# Altium integrated library TI Power Management Battery Management.IntLib: 949 symbols (part 39 of 62)
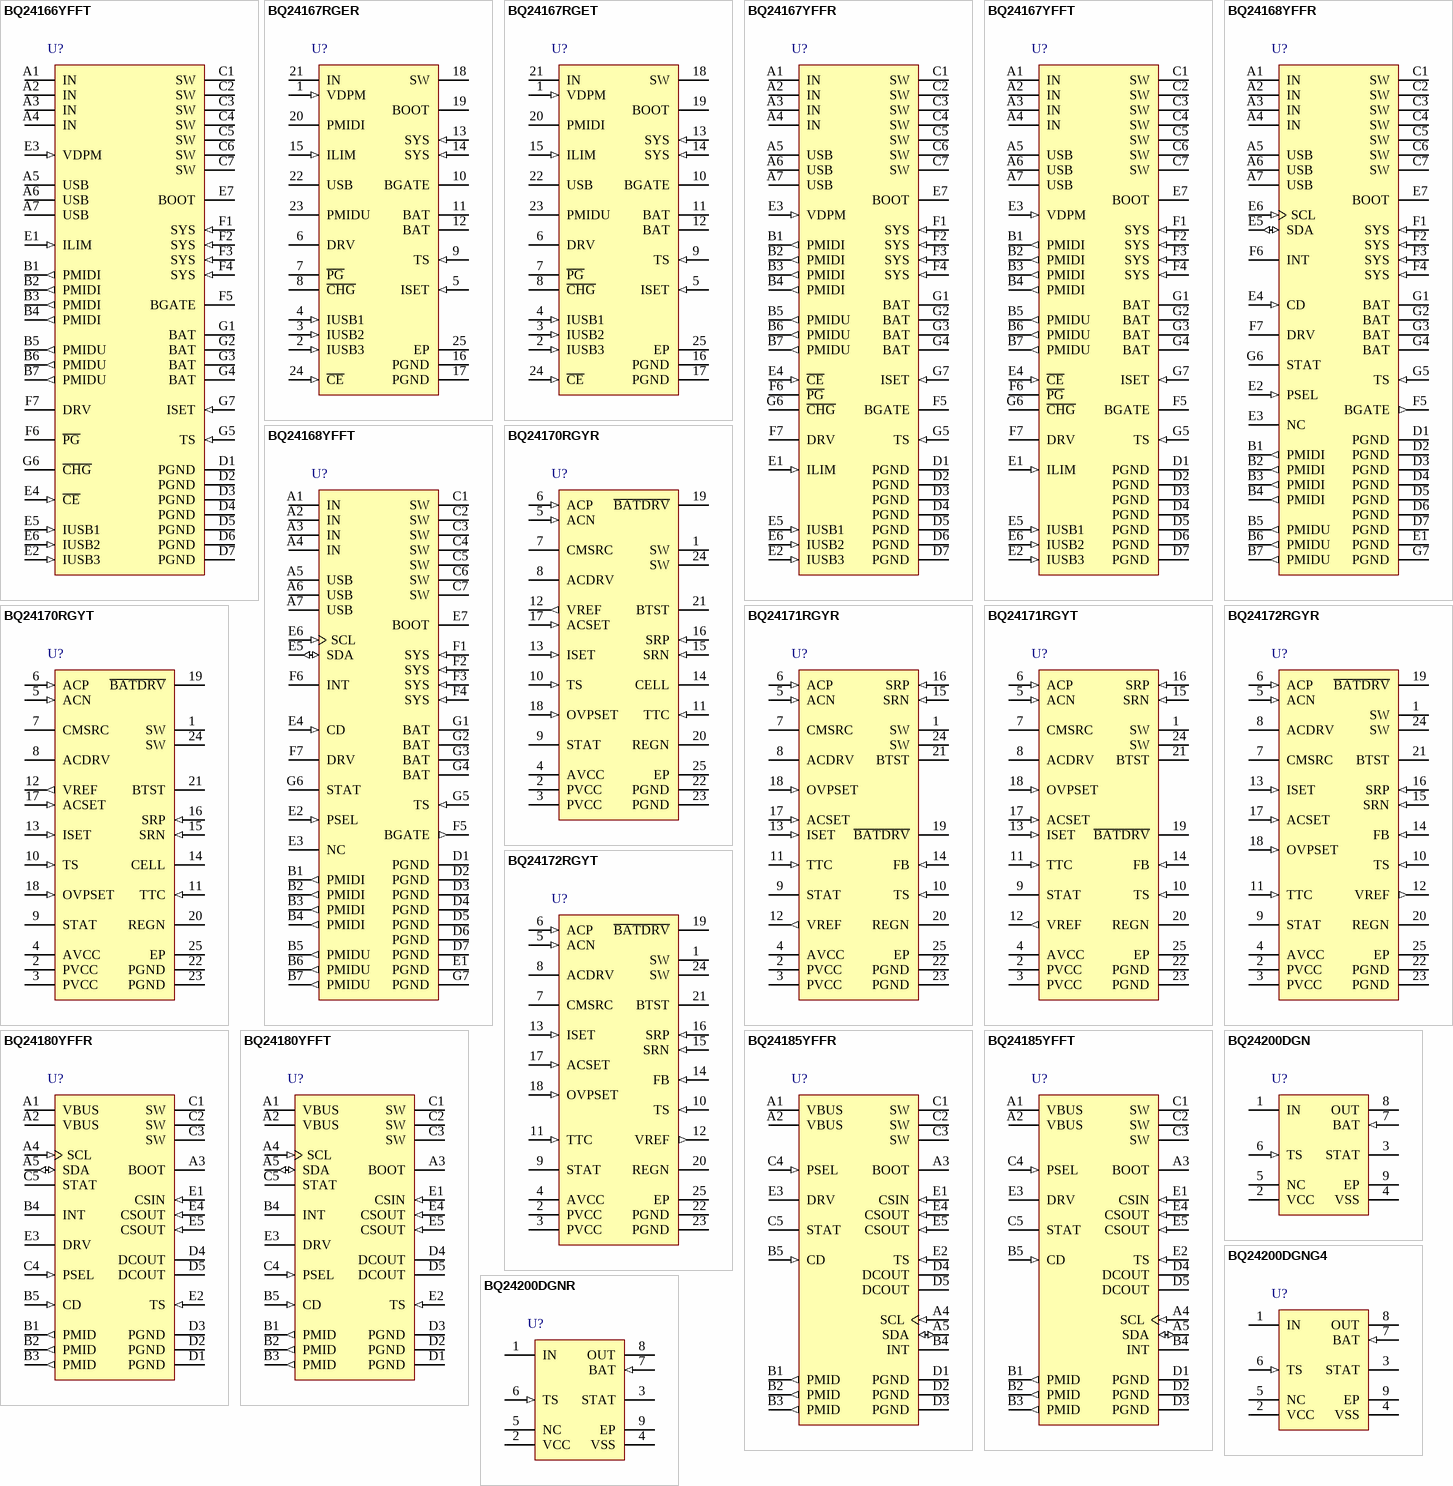
[diagram p72: symbols BQ24166YFFT to BQ24200DGNR]

## BQ24167YFFR
designator U?
2.5 A, Dual-Input, Single Cell Switchmode Li-Ion Battery Charger with Power Path Management, 4 V, -40 to 85 degC, 49-pin DSBGA (YFF), Green (RoHS & no Sb/Br); PartNumber: BQ24167YFFR; Manufacturer: Texas Instruments; Lead Acid: N; Li-Ion: Y; SubFamily: Battery Charge Management; Vin(Min)(V): 4; DatasheetVersion: SLUSAP4A; PackageVersion: revAH, Jul-2012; PackageReference: YFF49-2780X2780DE; PackageDescription: 49-Ball Die-Size Ball Grid Array 0.4 mm Pitch, Pb-Free; Supplier 1: Digi-Key; Supplier Part Number 1: BQ24167YFFR-ND; Supplier 2: Newark; Supplier Part Number 2: 92T2004; Supplier 3: Mouser; Supplier Part Number 3: 595-BQ24167YFFR; Eco-Plan: Green (RoHS & no Sb/Br); Li-Polymer: Y; NiCd: N; NiMH: N; Over Voltage Protection: N; Mounting Technology: Surface Mount; ComponentLink1Description: Datasheet; ComponentLink1URL: http://www.ti.com/general/docs/lit/getliterature.tsp?genericPartNumber=BQ24167&fileType=pdf
footprint YFF49-2780X2780DE (BGA, 49-Leads, Body 2.78x2.78mm, Pitch 0.4mm, Solder Mask Defined Pads)
pins: A1 IN (power) "Input power supply. IN is connected to the external DC supply (AC adapter or alternate power source). Bypass IN to PGND with at least a 1uF ceramic capacitor.", A2 IN (power) "Input power supply. IN is connected to the external DC supply (AC adapter or alternate power source). Bypass IN to PGND with at least a 1uF ceramic capacitor.", A3 IN (power) "Input power supply. IN is connected to the external DC supply (AC adapter or alternate power source). Bypass IN to PGND with at least a 1uF ceramic capacitor.", A4 IN (power) "Input power supply. IN is connected to the external DC supply (AC adapter or alternate power source). Bypass IN to PGND with at least a 1uF ceramic capacitor.", A5 USB (power) "USB Input Power Supply. USB is connected to the external DC supply (AC adapter or USB port). Bypass USB to PGND with at least a 1uF ceramic capacitor.", A6 USB (power) "USB Input Power Supply. USB is connected to the external DC supply (AC adapter or USB port). Bypass USB to PGND with at least a 1uF ceramic capacitor.", A7 USB (power) "USB Input Power Supply. USB is connected to the external DC supply (AC adapter or USB port). Bypass USB to PGND with at least a 1uF ceramic capacitor.", B1 PMIDI (out) "Reverse Blocking MOSFET and High Side MOSFET Connection Point for High Power Input. Bypass PMIDI to GND with at least a 4.7uF ceramic capacitor. Use caution when connecting an external load to PMIDI. The PMIDI output is not (See Datasheet)", B2 PMIDI (out) "Reverse Blocking MOSFET and High Side MOSFET Connection Point for High Power Input. Bypass PMIDI to GND with at least a 4.7uF ceramic capacitor. Use caution when connecting an external load to PMIDI. The PMIDI output is not (See Datasheet)", B3 PMIDI (out) "Reverse Blocking MOSFET and High Side MOSFET Connection Point for High Power Input. Bypass PMIDI to GND with at least a 4.7uF ceramic capacitor. Use caution when connecting an external load to PMIDI. The PMIDI output is not (See Datasheet)", B4 PMIDI (out) "Reverse Blocking MOSFET and High Side MOSFET Connection Point for High Power Input. Bypass PMIDI to GND with at least a 4.7uF ceramic capacitor. Use caution when connecting an external load to PMIDI. The PMIDI output is not (See Datasheet)", B5 PMIDU (out) "Reverse Blocking MOSFET and High Side MOSFET Connection Point for USB Input. Bypass PMIDU to GND with at least a 4.7uF ceramic capacitor. Use caution when connecting an external load to PMIDU. The PMIDU output is not current (See Datasheet)", B6 PMIDU (out) "Reverse Blocking MOSFET and High Side MOSFET Connection Point for USB Input. Bypass PMIDU to GND with at least a 4.7uF ceramic capacitor. Use caution when connecting an external load to PMIDU. The PMIDU output is not current (See Datasheet)", B7 PMIDU (out) "Reverse Blocking MOSFET and High Side MOSFET Connection Point for USB Input. Bypass PMIDU to GND with at least a 4.7uF ceramic capacitor. Use caution when connecting an external load to PMIDU. The PMIDU output is not current (See Datasheet)", C1 SW (power) "Inductor Connection. Connect to the switched side of the external inductor.", C2 SW (power) "Inductor Connection. Connect to the switched side of the external inductor.", C3 SW (power) "Inductor Connection. Connect to the switched side of the external inductor.", C4 SW (power) "Inductor Connection. Connect to the switched side of the external inductor.", C5 SW (power) "Inductor Connection. Connect to the switched side of the external inductor.", C6 SW (power) "Inductor Connection. Connect to the switched side of the external inductor.", C7 SW (power) "Inductor Connection. Connect to the switched side of the external inductor.", D1 PGND (power) "Ground terminal. Connect to the thermal pad (for QFN only) and the ground plane of the circuit.", D2 PGND (power) "Ground terminal. Connect to the thermal pad (for QFN only) and the ground plane of the circuit.", D3 PGND (power) "Ground terminal. Connect to the thermal pad (for QFN only) and the ground plane of the circuit.", D4 PGND (power) "Ground terminal. Connect to the thermal pad (for QFN only) and the ground plane of the circuit.", D5 PGND (power) "Ground terminal. Connect to the thermal pad (for QFN only) and the ground plane of the circuit.", D6 PGND (power) "Ground terminal. Connect to the thermal pad (for QFN only) and the ground plane of the circuit.", D7 PGND (power) "Ground terminal. Connect to the thermal pad (for QFN only) and the ground plane of the circuit.", E1 ILIM (in) "IN Input Current Limit Programming Input. Connect a resistor from ILIM to GND to program the input current limit for IN. The current limit is programmable from 1A to 2.5A. ILIM has no effect on the USB input.", E2 IUSB3 (in) "USB Input Current Limit Programming Inputs. USB3 program the input current limit for the USB input.USB2.0 and USB3.0 current limits are available for easy implementation of these standards. Table 1 shows the settings for (See Datasheet)", E3 VDPM (in) "Input DPM Programming Input. Connect a resistor divider from IN to GND with VDPM connected to the center tap to program the Input Voltage based Dynamic Power Management (VIN-DPM) threshold. The input current is reduced to (See Datasheet)", E4 ~{CE} (in) "Charge Enable Input. C\E\ is used to disable or enable the charge process. A low logic level (0) enables charging and a high logic level (1) disables charging. When charging is disabled, the SYS output remains in regulation, (See Datasheet)", E5 IUSB1 (in) "USB Input Current Limit Programming Inputs. USB1 program the input current limit for the USB input. USB2.0 and USB3.0 current limits are available for easy implementation of these standards. Table 1 shows the settings for (See Datasheet)", E6 IUSB2 (in) "USB Input Current Limit Programming Inputs. USB2 program the input current limit for the USB input. USB2.0 and USB3.0 current limits are available for easy implementation of these standards. Table 1 shows the settings for (See Datasheet)", E7 BOOT (power) "High Side MOSFET Gate Driver Supply. Connect a 0.01uF ceramic capacitor (voltage rating > 10V) from BOOT to SW to supply the gate drive for the high side MOSFETs.", F1 SYS (in) "System Voltage Sense and Charger FET Connection. Connect SYS to the system output at the output bulk capacitors. Bypass SYS locally with at least 10uF. 47uF bypass capacitance is recommended for best transient response.", F2 SYS (in) "System Voltage Sense and Charger FET Connection. Connect SYS to the system output at the output bulk capacitors. Bypass SYS locally with at least 10uF. 47uF bypass capacitance is recommended for best transient response.", F3 SYS (in) "System Voltage Sense and Charger FET Connection. Connect SYS to the system output at the output bulk capacitors. Bypass SYS locally with at least 10uF. 47uF bypass capacitance is recommended for best transient response.", F4 SYS (in) "System Voltage Sense and Charger FET Connection. Connect SYS to the system output at the output bulk capacitors. Bypass SYS locally with at least 10uF. 47uF bypass capacitance is recommended for best transient response.", F5 BGATE "External Discharge MOSFET Gate Connection. BGATE drives an external PChannel MOSFET to provide a very low resistance discharge path. Connect BGATE to the gate of the external MOSFET. BGATE is low during high impedance mode (See Datasheet)", F6 ~{PG} (hiz) "Power Good Open Drain Output. P\G\ is pulled low when a valid supply is connected to either USB or IN. A valid supply is between VBAT+VSLP and VOVP. If not supply is connected or the supply is out of this range, P\G\ is high (See Datasheet)", F7 DRV (power) "Gate Drive Supply. DRV is the bias supply for the gate drive of the internal MOSFETs. bypass DRV to PGND with a 1uF ceramic capacitor. DRV may be used to drive external loads up to 10mA. DRV is active whenever the input is (See Datasheet)", G1 BAT (power) "Battery Connection. Connect to the positive terminal of the battery. Additionally, bypass BAT to GND with at least a 1uF capacitor.", G2 BAT (power) "Battery Connection. Connect to the positive terminal of the battery. Additionally, bypass BAT to GND with at least a 1uF capacitor.", G3 BAT (power) "Battery Connection. Connect to the positive terminal of the battery. Additionally, bypass BAT to GND with at least a 1uF capacitor.", G4 BAT (power) "Battery Connection. Connect to the positive terminal of the battery. Additionally, bypass BAT to GND with at least a 1uF capacitor.", G5 TS (in) "Battery Pack NTC Monitor. Connect TS to the center tap of a resistor divider from DRV to GND. The NTC is connected from TS to GND. The TS function in the bq24166 provides 2 thresholds for Hot/ Cold shutoff, while the bq24167 (See Datasheet)", G6 ~{CHG} (hiz) "Charge Status Open Drain Output. C\H\G\ is pulled low when a charge cycle starts and remains low while charging. C\H\G\ is high impedance when the charging terminates and when no supply exists. C\H\G\ does not indicate (See Datasheet)", G7 ISET (in) "Charge Current Programming Input. Connect a resistor from ISET to GND to program the fast charge current. The charge current is programmable from 550mA to 2.5A."

## BQ24167YFFT
designator U?
2.5 A, Dual-Input, Single Cell Switchmode Li-Ion Battery Charger with Power Path Management, 4 V, -40 to 85 degC, 49-pin DSBGA (YFF), Green (RoHS & no Sb/Br); PartNumber: BQ24167YFFT; Manufacturer: Texas Instruments; Lead Acid: N; Li-Ion: Y; SubFamily: Battery Charge Management; Vin(Min)(V): 4; DatasheetVersion: SLUSAP4A; PackageVersion: revAH, Jul-2012; PackageReference: YFF49-2780X2780DE; PackageDescription: 49-Ball Die-Size Ball Grid Array 0.4 mm Pitch, Pb-Free; Supplier 1: Digi-Key; Supplier Part Number 1: 296-30345-2-ND; Supplier 2: Digi-Key; Supplier Part Number 2: 296-30345-1-ND; Supplier 3: Digi-Key; Supplier Part Number 3: 296-30345-6-ND; Supplier 4: Farnell; Supplier Part Number 4: 2099910; Supplier 5: Newark; Supplier Part Number 5: 05W5380; Supplier 6: Newark; Supplier Part Number 6: 92T2005; Supplier 7: Mouser; Supplier Part Number 7: 595-BQ24167YFFT; Eco-Plan: Green (RoHS & no Sb/Br); Li-Polymer: Y; NiCd: N; NiMH: N; Over Voltage Protection: N; Mounting Technology: Surface Mount; ComponentLink1Description: Datasheet; ComponentLink1URL: http://www.ti.com/general/docs/lit/getliterature.tsp?genericPartNumber=BQ24167&fileType=pdf
footprint YFF49-2780X2780DE (BGA, 49-Leads, Body 2.78x2.78mm, Pitch 0.4mm, Solder Mask Defined Pads)
pins: A1 IN (power) "Input power supply. IN is connected to the external DC supply (AC adapter or alternate power source). Bypass IN to PGND with at least a 1uF ceramic capacitor.", A2 IN (power) "Input power supply. IN is connected to the external DC supply (AC adapter or alternate power source). Bypass IN to PGND with at least a 1uF ceramic capacitor.", A3 IN (power) "Input power supply. IN is connected to the external DC supply (AC adapter or alternate power source). Bypass IN to PGND with at least a 1uF ceramic capacitor.", A4 IN (power) "Input power supply. IN is connected to the external DC supply (AC adapter or alternate power source). Bypass IN to PGND with at least a 1uF ceramic capacitor.", A5 USB (power) "USB Input Power Supply. USB is connected to the external DC supply (AC adapter or USB port). Bypass USB to PGND with at least a 1uF ceramic capacitor.", A6 USB (power) "USB Input Power Supply. USB is connected to the external DC supply (AC adapter or USB port). Bypass USB to PGND with at least a 1uF ceramic capacitor.", A7 USB (power) "USB Input Power Supply. USB is connected to the external DC supply (AC adapter or USB port). Bypass USB to PGND with at least a 1uF ceramic capacitor.", B1 PMIDI (out) "Reverse Blocking MOSFET and High Side MOSFET Connection Point for High Power Input. Bypass PMIDI to GND with at least a 4.7uF ceramic capacitor. Use caution when connecting an external load to PMIDI. The PMIDI output is not (See Datasheet)", B2 PMIDI (out) "Reverse Blocking MOSFET and High Side MOSFET Connection Point for High Power Input. Bypass PMIDI to GND with at least a 4.7uF ceramic capacitor. Use caution when connecting an external load to PMIDI. The PMIDI output is not (See Datasheet)", B3 PMIDI (out) "Reverse Blocking MOSFET and High Side MOSFET Connection Point for High Power Input. Bypass PMIDI to GND with at least a 4.7uF ceramic capacitor. Use caution when connecting an external load to PMIDI. The PMIDI output is not (See Datasheet)", B4 PMIDI (out) "Reverse Blocking MOSFET and High Side MOSFET Connection Point for High Power Input. Bypass PMIDI to GND with at least a 4.7uF ceramic capacitor. Use caution when connecting an external load to PMIDI. The PMIDI output is not (See Datasheet)", B5 PMIDU (out) "Reverse Blocking MOSFET and High Side MOSFET Connection Point for USB Input. Bypass PMIDU to GND with at least a 4.7uF ceramic capacitor. Use caution when connecting an external load to PMIDU. The PMIDU output is not current (See Datasheet)", B6 PMIDU (out) "Reverse Blocking MOSFET and High Side MOSFET Connection Point for USB Input. Bypass PMIDU to GND with at least a 4.7uF ceramic capacitor. Use caution when connecting an external load to PMIDU. The PMIDU output is not current (See Datasheet)", B7 PMIDU (out) "Reverse Blocking MOSFET and High Side MOSFET Connection Point for USB Input. Bypass PMIDU to GND with at least a 4.7uF ceramic capacitor. Use caution when connecting an external load to PMIDU. The PMIDU output is not current (See Datasheet)", C1 SW (power) "Inductor Connection. Connect to the switched side of the external inductor.", C2 SW (power) "Inductor Connection. Connect to the switched side of the external inductor.", C3 SW (power) "Inductor Connection. Connect to the switched side of the external inductor.", C4 SW (power) "Inductor Connection. Connect to the switched side of the external inductor.", C5 SW (power) "Inductor Connection. Connect to the switched side of the external inductor.", C6 SW (power) "Inductor Connection. Connect to the switched side of the external inductor.", C7 SW (power) "Inductor Connection. Connect to the switched side of the external inductor.", D1 PGND (power) "Ground terminal. Connect to the thermal pad (for QFN only) and the ground plane of the circuit.", D2 PGND (power) "Ground terminal. Connect to the thermal pad (for QFN only) and the ground plane of the circuit.", D3 PGND (power) "Ground terminal. Connect to the thermal pad (for QFN only) and the ground plane of the circuit.", D4 PGND (power) "Ground terminal. Connect to the thermal pad (for QFN only) and the ground plane of the circuit.", D5 PGND (power) "Ground terminal. Connect to the thermal pad (for QFN only) and the ground plane of the circuit.", D6 PGND (power) "Ground terminal. Connect to the thermal pad (for QFN only) and the ground plane of the circuit.", D7 PGND (power) "Ground terminal. Connect to the thermal pad (for QFN only) and the ground plane of the circuit.", E1 ILIM (in) "IN Input Current Limit Programming Input. Connect a resistor from ILIM to GND to program the input current limit for IN. The current limit is programmable from 1A to 2.5A. ILIM has no effect on the USB input.", E2 IUSB3 (in) "USB Input Current Limit Programming Inputs. USB3 program the input current limit for the USB input.USB2.0 and USB3.0 current limits are available for easy implementation of these standards. Table 1 shows the settings for (See Datasheet)", E3 VDPM (in) "Input DPM Programming Input. Connect a resistor divider from IN to GND with VDPM connected to the center tap to program the Input Voltage based Dynamic Power Management (VIN-DPM) threshold. The input current is reduced to (See Datasheet)", E4 ~{CE} (in) "Charge Enable Input. C\E\ is used to disable or enable the charge process. A low logic level (0) enables charging and a high logic level (1) disables charging. When charging is disabled, the SYS output remains in regulation, (See Datasheet)", E5 IUSB1 (in) "USB Input Current Limit Programming Inputs. USB1 program the input current limit for the USB input. USB2.0 and USB3.0 current limits are available for easy implementation of these standards. Table 1 shows the settings for (See Datasheet)", E6 IUSB2 (in) "USB Input Current Limit Programming Inputs. USB2 program the input current limit for the USB input. USB2.0 and USB3.0 current limits are available for easy implementation of these standards. Table 1 shows the settings for (See Datasheet)", E7 BOOT (power) "High Side MOSFET Gate Driver Supply. Connect a 0.01uF ceramic capacitor (voltage rating > 10V) from BOOT to SW to supply the gate drive for the high side MOSFETs.", F1 SYS (in) "System Voltage Sense and Charger FET Connection. Connect SYS to the system output at the output bulk capacitors. Bypass SYS locally with at least 10uF. 47uF bypass capacitance is recommended for best transient response.", F2 SYS (in) "System Voltage Sense and Charger FET Connection. Connect SYS to the system output at the output bulk capacitors. Bypass SYS locally with at least 10uF. 47uF bypass capacitance is recommended for best transient response.", F3 SYS (in) "System Voltage Sense and Charger FET Connection. Connect SYS to the system output at the output bulk capacitors. Bypass SYS locally with at least 10uF. 47uF bypass capacitance is recommended for best transient response.", F4 SYS (in) "System Voltage Sense and Charger FET Connection. Connect SYS to the system output at the output bulk capacitors. Bypass SYS locally with at least 10uF. 47uF bypass capacitance is recommended for best transient response.", F5 BGATE "External Discharge MOSFET Gate Connection. BGATE drives an external PChannel MOSFET to provide a very low resistance discharge path. Connect BGATE to the gate of the external MOSFET. BGATE is low during high impedance mode (See Datasheet)", F6 ~{PG} (hiz) "Power Good Open Drain Output. P\G\ is pulled low when a valid supply is connected to either USB or IN. A valid supply is between VBAT+VSLP and VOVP. If not supply is connected or the supply is out of this range, P\G\ is high (See Datasheet)", F7 DRV (power) "Gate Drive Supply. DRV is the bias supply for the gate drive of the internal MOSFETs. bypass DRV to PGND with a 1uF ceramic capacitor. DRV may be used to drive external loads up to 10mA. DRV is active whenever the input is (See Datasheet)", G1 BAT (power) "Battery Connection. Connect to the positive terminal of the battery. Additionally, bypass BAT to GND with at least a 1uF capacitor.", G2 BAT (power) "Battery Connection. Connect to the positive terminal of the battery. Additionally, bypass BAT to GND with at least a 1uF capacitor.", G3 BAT (power) "Battery Connection. Connect to the positive terminal of the battery. Additionally, bypass BAT to GND with at least a 1uF capacitor.", G4 BAT (power) "Battery Connection. Connect to the positive terminal of the battery. Additionally, bypass BAT to GND with at least a 1uF capacitor.", G5 TS (in) "Battery Pack NTC Monitor. Connect TS to the center tap of a resistor divider from DRV to GND. The NTC is connected from TS to GND. The TS function in the bq24166 provides 2 thresholds for Hot/ Cold shutoff, while the bq24167 (See Datasheet)", G6 ~{CHG} (hiz) "Charge Status Open Drain Output. C\H\G\ is pulled low when a charge cycle starts and remains low while charging. C\H\G\ is high impedance when the charging terminates and when no supply exists. C\H\G\ does not indicate (See Datasheet)", G7 ISET (in) "Charge Current Programming Input. Connect a resistor from ISET to GND to program the fast charge current. The charge current is programmable from 550mA to 2.5A."

## BQ24168YFFR
designator U?
2.5 A, Dual-Input, Single Cell Switchmode Li-Ion Battery Charger with Power Path Management & and I2C, 4 V, -40 to 85 degC, 49-pin DSBGA (YFF), Green (RoHS & no Sb/Br); PartNumber: BQ24168YFFR; Manufacturer: Texas Instruments; Lead Acid: N; Li-Ion: Y; SubFamily: Battery Charge Management; Vin(Min)(V): 4.0; DatasheetVersion: SLUSAO0A; PackageVersion: revAG, Jun-2012; PackageReference: YFF49-2741X2741DE; PackageDescription: 49-Ball Die-Size Ball Grid Array 0.4 mm Pitch, Pb-Free; Supplier 1: Digi-Key; Supplier Part Number 1: 296-30003-2-ND; Supplier 2: Digi-Key; Supplier Part Number 2: 296-30003-1-ND; Supplier 3: Digi-Key; Supplier Part Number 3: 296-30003-6-ND; Supplier 4: Newark; Supplier Part Number 4: 74T1464; Supplier 5: Mouser; Supplier Part Number 5: 595-BQ24168YFFR; Eco-Plan: Green (RoHS & no Sb/Br); Li-Polymer: Y; NiCd: N; NiMH: N; Over Voltage Protection: N; Mounting Technology: Surface Mount; ComponentLink1Description: Datasheet; ComponentLink1URL: http://www.ti.com/general/docs/lit/getliterature.tsp?genericPartNumber=BQ24168&fileType=pdf
footprint YFF49-2741X2741DE (BGA, 49-Leads, Body 2.74x2.74mm, Pitch 0.4mm, Solder Mask Defined Pads)
pins: A1 IN (power) "Input power supply - IN is connected to the external DC supply (AC adapter or alternate power source). Bypass IN to PGND with at least a 1uF ceramic capacitor", A2 IN (power) "Input power supply - IN is connected to the external DC supply (AC adapter or alternate power source). Bypass IN to PGND with at least a 1uF ceramic capacitor", A3 IN (power) "Input power supply - IN is connected to the external DC supply (AC adapter or alternate power source). Bypass IN to PGND with at least a 1uF ceramic capacitor", A4 IN (power) "Input power supply - IN is connected to the external DC supply (AC adapter or alternate power source). Bypass IN to PGND with at least a 1uF ceramic capacitor", A5 USB (power) "USB Input Power Supply - USB is connected to the external DC supply (AC adapter or USB port). Bypass USB to PGND with at least a 1uF ceramic capacitor", A6 USB (power) "USB Input Power Supply - USB is connected to the external DC supply (AC adapter or USB port). Bypass USB to PGND with at least a 1uF ceramic capacitor", A7 USB (power) "USB Input Power Supply - USB is connected to the external DC supply (AC adapter or USB port). Bypass USB to PGND with at least a 1uF ceramic capacitor", B1 PMIDI (out) "Reverse Blocking MOSFET and High Side MOSFET Connection Point for High Power Input - Bypass PMIDI to GND with at least a 4.7uF ceramic capacitor. Use caution when connecting an external load to PMIDI. The PMIDI output is not (See Datasheet)", B2 PMIDI (out) "Reverse Blocking MOSFET and High Side MOSFET Connection Point for High Power Input - Bypass PMIDI to GND with at least a 4.7uF ceramic capacitor. Use caution when connecting an external load to PMIDI. The PMIDI output is not (See Datasheet)", B3 PMIDI (out) "Reverse Blocking MOSFET and High Side MOSFET Connection Point for High Power Input - Bypass PMIDI to GND with at least a 4.7uF ceramic capacitor. Use caution when connecting an external load to PMIDI. The PMIDI output is not (See Datasheet)", B4 PMIDI (out) "Reverse Blocking MOSFET and High Side MOSFET Connection Point for High Power Input - Bypass PMIDI to GND with at least a 4.7uF ceramic capacitor. Use caution when connecting an external load to PMIDI. The PMIDI output is not (See Datasheet)", B5 PMIDU (out) "Reverse Blocking MOSFET and High Side MOSFET Connection Point for USB Input - Bypass PMIDU to GND with at least a 4.7uF ceramic capacitor. Use caution when connecting an external load to PMIDU. The PMIDU output is not (See Datasheet)", B6 PMIDU (out) "Reverse Blocking MOSFET and High Side MOSFET Connection Point for USB Input - Bypass PMIDU to GND with at least a 4.7uF ceramic capacitor. Use caution when connecting an external load to PMIDU. The PMIDU output is not (See Datasheet)", B7 PMIDU (out) "Reverse Blocking MOSFET and High Side MOSFET Connection Point for USB Input - Bypass PMIDU to GND with at least a 4.7uF ceramic capacitor. Use caution when connecting an external load to PMIDU. The PMIDU output is not (See Datasheet)", C1 SW (power) "Inductor Connection - Connect to the switched side of the external inductor.", C2 SW (power) "Inductor Connection - Connect to the switched side of the external inductor.", C3 SW (power) "Inductor Connection - Connect to the switched side of the external inductor.", C4 SW (power) "Inductor Connection - Connect to the switched side of the external inductor.", C5 SW (power) "Inductor Connection - Connect to the switched side of the external inductor.", C6 SW (power) "Inductor Connection - Connect to the switched side of the external inductor.", C7 SW (power) "Inductor Connection - Connect to the switched side of the external inductor.", D1 PGND (power) "Ground terminal - Connect to the thermal pad (for QFN only) and the ground plane of the circuit.", D2 PGND (power) "Ground terminal - Connect to the thermal pad (for QFN only) and the ground plane of the circuit.", D3 PGND (power) "Ground terminal - Connect to the thermal pad (for QFN only) and the ground plane of the circuit.", D4 PGND (power) "Ground terminal - Connect to the thermal pad (for QFN only) and the ground plane of the circuit.", D5 PGND (power) "Ground terminal - Connect to the thermal pad (for QFN only) and the ground plane of the circuit.", D6 PGND (power) "Ground terminal - Connect to the thermal pad (for QFN only) and the ground plane of the circuit.", D7 PGND (power) "Ground terminal - Connect to the thermal pad (for QFN only) and the ground plane of the circuit.", E1 PGND (power) "Ground terminal - Connect to the thermal pad (for QFN only) and the ground plane of the circuit.", E2 PSEL (in) "USB Source Detection Input - Drive PSEL high to indicate that a USB source is connected to the USB input. When PSEL is high, the IC starts up with a 100mA input current limit for USB. Drive PSEL low to indicate that an AC (See Datasheet)", E3 NC "no connection", E4 CD (in) "IC Hardware Disable Input - Drive CD high to place the bq2416x in high-z mode. Drive CD low for normal operation. Do not leave CD unconnected.", E5 SDA (io) "I2C Interface Data - Connect SDA to the logic rail through a 10kohm resistor.", E6 SCL (in) "I2C Interface Clock - Connect SCL to the logic rail through a 10kohm resistor", E7 BOOT (power) "High Side MOSFET Gate Driver Supply - Connect a 0.01uF ceramic capacitor (voltage rating > 10V) from BOOT to SW to supply the gate drive for the high side MOSFETs", F1 SYS (in) "System Voltage Sense and Charger FET Connection - Connect SYS to the system output at the output bulk capacitors. Bypass SYS locally with at least 10uF. A 47uF bypass capacitor is recommended for optimal transient response.", F2 SYS (in) "System Voltage Sense and Charger FET Connection - Connect SYS to the system output at the output bulk capacitors. Bypass SYS locally with at least 10uF. A 47uF bypass capacitor is recommended for optimal transient response.", F3 SYS (in) "System Voltage Sense and Charger FET Connection - Connect SYS to the system output at the output bulk capacitors. Bypass SYS locally with at least 10uF. A 47uF bypass capacitor is recommended for optimal transient response.", F4 SYS (in) "System Voltage Sense and Charger FET Connection - Connect SYS to the system output at the output bulk capacitors. Bypass SYS locally with at least 10uF. A 47uF bypass capacitor is recommended for optimal transient response.", F5 BGATE (out) "External Discharge MOSFET Gate Connection - BGATE drives an external PChannel MOSFET to provide a very low-resistance discharge path. Connect BGATE to the gate of the external MOSFET. BGATE is low during high impedance mode (See Datasheet)", F6 INT (hiz) "Status Output - INT is an open-drain output that signals charging status and fault interrupts. INT pulls low during charging. INT is high impedance when charging is complete or the charger is disabled. When a fault occurs, a (See Datasheet)", F7 DRV (power) "Gate Drive Supply - DRV is the bias supply for the gate drive of the internal MOSFETs. Bypass DRV to PGND with a 1uF ceramic capacitor. DRV may be used to drive external loads up to 10mA. DRV is active whenever the input is (See Datasheet)", G1 BAT (power) "Battery Connection - Connect to the positive terminal of the battery. Additionally, bypass BAT to GND with at least a 1uF capacitor", G2 BAT (power) "Battery Connection - Connect to the positive terminal of the battery. Additionally, bypass BAT to GND with at least a 1uF capacitor", G3 BAT (power) "Battery Connection - Connect to the positive terminal of the battery. Additionally, bypass BAT to GND with at least a 1uF capacitor", G4 BAT (power) "Battery Connection - Connect to the positive terminal of the battery. Additionally, bypass BAT to GND with at least a 1uF capacitor", G5 TS (in) "Battery Pack NTC Monitor - Connect TS to the center tap of a resistor divider from DRV to GND. The NTC is connected from TS to GND. The TS function provides 4 thresholds for JEITA compatibility (160/163/168 only). TS faults (See Datasheet)", G6 STAT (hiz) "Status Output - STAT is an open-drain output that signals charging status and fault interrupts. STAT pulls low during charging. STAT is high impedance when charging is complete or the charger is disabled. When a fault (See Datasheet)", G7 PGND (power) "Ground terminal - Connect to the thermal pad (for QFN only) and the ground plane of the circuit."

## BQ24168YFFT
designator U?
2.5 A, Dual-Input, Single Cell Switchmode Li-Ion Battery Charger with Power Path Management & and I2C, 4 V, -40 to 85 degC, 49-pin DSBGA (YFF), Green (RoHS & no Sb/Br); PartNumber: BQ24168YFFT; Manufacturer: Texas Instruments; Lead Acid: N; Li-Ion: Y; SubFamily: Battery Charge Management; Vin(Min)(V): 4.0; DatasheetVersion: SLUSAO0A; PackageVersion: revAG, Jun-2012; PackageReference: YFF49-2741X2741DE; PackageDescription: 49-Ball Die-Size Ball Grid Array 0.4 mm Pitch, Pb-Free; Supplier 1: Digi-Key; Supplier Part Number 1: BQ24168YFFT-ND; Supplier 2: Newark; Supplier Part Number 2: 74T1465; Supplier 3: Mouser; Supplier Part Number 3: 595-BQ24168YFFT; Eco-Plan: Green (RoHS & no Sb/Br); Li-Polymer: Y; NiCd: N; NiMH: N; Over Voltage Protection: N; Mounting Technology: Surface Mount; ComponentLink1Description: Datasheet; ComponentLink1URL: http://www.ti.com/general/docs/lit/getliterature.tsp?genericPartNumber=BQ24168&fileType=pdf
footprint YFF49-2741X2741DE (BGA, 49-Leads, Body 2.74x2.74mm, Pitch 0.4mm, Solder Mask Defined Pads)
pins: A1 IN (power) "Input power supply - IN is connected to the external DC supply (AC adapter or alternate power source). Bypass IN to PGND with at least a 1uF ceramic capacitor", A2 IN (power) "Input power supply - IN is connected to the external DC supply (AC adapter or alternate power source). Bypass IN to PGND with at least a 1uF ceramic capacitor", A3 IN (power) "Input power supply - IN is connected to the external DC supply (AC adapter or alternate power source). Bypass IN to PGND with at least a 1uF ceramic capacitor", A4 IN (power) "Input power supply - IN is connected to the external DC supply (AC adapter or alternate power source). Bypass IN to PGND with at least a 1uF ceramic capacitor", A5 USB (power) "USB Input Power Supply - USB is connected to the external DC supply (AC adapter or USB port). Bypass USB to PGND with at least a 1uF ceramic capacitor", A6 USB (power) "USB Input Power Supply - USB is connected to the external DC supply (AC adapter or USB port). Bypass USB to PGND with at least a 1uF ceramic capacitor", A7 USB (power) "USB Input Power Supply - USB is connected to the external DC supply (AC adapter or USB port). Bypass USB to PGND with at least a 1uF ceramic capacitor", B1 PMIDI (out) "Reverse Blocking MOSFET and High Side MOSFET Connection Point for High Power Input - Bypass PMIDI to GND with at least a 4.7uF ceramic capacitor. Use caution when connecting an external load to PMIDI. The PMIDI output is not (See Datasheet)", B2 PMIDI (out) "Reverse Blocking MOSFET and High Side MOSFET Connection Point for High Power Input - Bypass PMIDI to GND with at least a 4.7uF ceramic capacitor. Use caution when connecting an external load to PMIDI. The PMIDI output is not (See Datasheet)", B3 PMIDI (out) "Reverse Blocking MOSFET and High Side MOSFET Connection Point for High Power Input - Bypass PMIDI to GND with at least a 4.7uF ceramic capacitor. Use caution when connecting an external load to PMIDI. The PMIDI output is not (See Datasheet)", B4 PMIDI (out) "Reverse Blocking MOSFET and High Side MOSFET Connection Point for High Power Input - Bypass PMIDI to GND with at least a 4.7uF ceramic capacitor. Use caution when connecting an external load to PMIDI. The PMIDI output is not (See Datasheet)", B5 PMIDU (out) "Reverse Blocking MOSFET and High Side MOSFET Connection Point for USB Input - Bypass PMIDU to GND with at least a 4.7uF ceramic capacitor. Use caution when connecting an external load to PMIDU. The PMIDU output is not (See Datasheet)", B6 PMIDU (out) "Reverse Blocking MOSFET and High Side MOSFET Connection Point for USB Input - Bypass PMIDU to GND with at least a 4.7uF ceramic capacitor. Use caution when connecting an external load to PMIDU. The PMIDU output is not (See Datasheet)", B7 PMIDU (out) "Reverse Blocking MOSFET and High Side MOSFET Connection Point for USB Input - Bypass PMIDU to GND with at least a 4.7uF ceramic capacitor. Use caution when connecting an external load to PMIDU. The PMIDU output is not (See Datasheet)", C1 SW (power) "Inductor Connection - Connect to the switched side of the external inductor.", C2 SW (power) "Inductor Connection - Connect to the switched side of the external inductor.", C3 SW (power) "Inductor Connection - Connect to the switched side of the external inductor.", C4 SW (power) "Inductor Connection - Connect to the switched side of the external inductor.", C5 SW (power) "Inductor Connection - Connect to the switched side of the external inductor.", C6 SW (power) "Inductor Connection - Connect to the switched side of the external inductor.", C7 SW (power) "Inductor Connection - Connect to the switched side of the external inductor.", D1 PGND (power) "Ground terminal - Connect to the thermal pad (for QFN only) and the ground plane of the circuit.", D2 PGND (power) "Ground terminal - Connect to the thermal pad (for QFN only) and the ground plane of the circuit.", D3 PGND (power) "Ground terminal - Connect to the thermal pad (for QFN only) and the ground plane of the circuit.", D4 PGND (power) "Ground terminal - Connect to the thermal pad (for QFN only) and the ground plane of the circuit.", D5 PGND (power) "Ground terminal - Connect to the thermal pad (for QFN only) and the ground plane of the circuit.", D6 PGND (power) "Ground terminal - Connect to the thermal pad (for QFN only) and the ground plane of the circuit.", D7 PGND (power) "Ground terminal - Connect to the thermal pad (for QFN only) and the ground plane of the circuit.", E1 PGND (power) "Ground terminal - Connect to the thermal pad (for QFN only) and the ground plane of the circuit.", E2 PSEL (in) "USB Source Detection Input - Drive PSEL high to indicate that a USB source is connected to the USB input. When PSEL is high, the IC starts up with a 100mA input current limit for USB. Drive PSEL low to indicate that an AC (See Datasheet)", E3 NC "no connection", E4 CD (in) "IC Hardware Disable Input - Drive CD high to place the bq2416x in high-z mode. Drive CD low for normal operation. Do not leave CD unconnected.", E5 SDA (io) "I2C Interface Data - Connect SDA to the logic rail through a 10kohm resistor.", E6 SCL (in) "I2C Interface Clock - Connect SCL to the logic rail through a 10kohm resistor", E7 BOOT (power) "High Side MOSFET Gate Driver Supply - Connect a 0.01uF ceramic capacitor (voltage rating > 10V) from BOOT to SW to supply the gate drive for the high side MOSFETs", F1 SYS (in) "System Voltage Sense and Charger FET Connection - Connect SYS to the system output at the output bulk capacitors. Bypass SYS locally with at least 10uF. A 47uF bypass capacitor is recommended for optimal transient response.", F2 SYS (in) "System Voltage Sense and Charger FET Connection - Connect SYS to the system output at the output bulk capacitors. Bypass SYS locally with at least 10uF. A 47uF bypass capacitor is recommended for optimal transient response.", F3 SYS (in) "System Voltage Sense and Charger FET Connection - Connect SYS to the system output at the output bulk capacitors. Bypass SYS locally with at least 10uF. A 47uF bypass capacitor is recommended for optimal transient response.", F4 SYS (in) "System Voltage Sense and Charger FET Connection - Connect SYS to the system output at the output bulk capacitors. Bypass SYS locally with at least 10uF. A 47uF bypass capacitor is recommended for optimal transient response.", F5 BGATE (out) "External Discharge MOSFET Gate Connection - BGATE drives an external PChannel MOSFET to provide a very low-resistance discharge path. Connect BGATE to the gate of the external MOSFET. BGATE is low during high impedance mode (See Datasheet)", F6 INT (hiz) "Status Output - INT is an open-drain output that signals charging status and fault interrupts. INT pulls low during charging. INT is high impedance when charging is complete or the charger is disabled. When a fault occurs, a (See Datasheet)", F7 DRV (power) "Gate Drive Supply - DRV is the bias supply for the gate drive of the internal MOSFETs. Bypass DRV to PGND with a 1uF ceramic capacitor. DRV may be used to drive external loads up to 10mA. DRV is active whenever the input is (See Datasheet)", G1 BAT (power) "Battery Connection - Connect to the positive terminal of the battery. Additionally, bypass BAT to GND with at least a 1uF capacitor", G2 BAT (power) "Battery Connection - Connect to the positive terminal of the battery. Additionally, bypass BAT to GND with at least a 1uF capacitor", G3 BAT (power) "Battery Connection - Connect to the positive terminal of the battery. Additionally, bypass BAT to GND with at least a 1uF capacitor", G4 BAT (power) "Battery Connection - Connect to the positive terminal of the battery. Additionally, bypass BAT to GND with at least a 1uF capacitor", G5 TS (in) "Battery Pack NTC Monitor - Connect TS to the center tap of a resistor divider from DRV to GND. The NTC is connected from TS to GND. The TS function provides 4 thresholds for JEITA compatibility (160/163/168 only). TS faults (See Datasheet)", G6 STAT (hiz) "Status Output - STAT is an open-drain output that signals charging status and fault interrupts. STAT pulls low during charging. STAT is high impedance when charging is complete or the charger is disabled. When a fault (See Datasheet)", G7 PGND (power) "Ground terminal - Connect to the thermal pad (for QFN only) and the ground plane of the circuit."

## BQ24170RGYR
designator U?
1.6 MHz Synchronous Switch-Mode Li-Ion and Li-Polymer Stand-Alone Battery Charger, 4 V, -40 to 85 degC, 24-pin VQFN (RGY), Green (RoHS & no Sb/Br); PartNumber: BQ24170RGYR; Manufacturer: Texas Instruments; Lead Acid: N; SubFamily: Battery Charge Management; Vin(Min)(V): 4; DatasheetVersion: SLUSAD2B; PackageVersion: revI, Jun-2011; PackageReference: RGY24-3100X2050TP; PackageDescription: 24-Leads Plastic Quad Flatpack No-Lead, 5.5 x 3.5 x 0.9 mm Body, 0.5 mm Pitch, Exposed Pad; Supplier 1: Digi-Key; Supplier Part Number 1: BQ24170RGYR-ND; Supplier 2: Newark; Supplier Part Number 2: 27T2628; Supplier 3: Mouser; Supplier Part Number 3: 595-BQ24170RGYR; Eco-Plan: Green (RoHS & no Sb/Br); Li-Ion: N; Li-Polymer: N; NiCd: N; NiMH: N; Over Voltage Protection: N; Mounting Technology: Surface Mount; Code_JEDEC: MO-241-BA; ComponentLink1Description: Datasheet; ComponentLink1URL: http://www.ti.com/general/docs/lit/getliterature.tsp?genericPartNumber=BQ24170&fileType=pdf
footprint RGY24-3100X2050TP (QFN, 24-Leads, Body 5.5x3.5mm, Pitch 0.5mm, Thermal Pad 3.1x2.05mm, TI Recommended)
pins: 1 SW (power) "Switching node, charge current output inductor connection. Connect the 0.047-uF bootstrap capacitor from SW to BTST.", 2 PVCC (power) "Charger input voltage. Connect at least 10-uF ceramic capacitor from PVCC to PGND and place it as close as possible to IC", 3 PVCC (power) "Charger input voltage. Connect at least 10-uF ceramic capacitor from PVCC to PGND and place it as close as possible to IC", 4 AVCC (power) "IC power positive supply. Place a 1-uF ceramic capacitor from AVCC to AGND and place it as close as possible to IC. Place a 10-ohm resistor from input side to AVCC pin to filter the noise. For 5V input, a 5-ohm resistor is (See Datasheet)", 5 ACN (in) "Adapter current sense resistor negative input. A 0.1-uF ceramic capacitor is placed from ACN to ACP to provide differential-mode filtering. An optional 0.1-uF ceramic capacitor is placed from ACN pin to AGND for common-mode (See Datasheet)", 6 ACP (in) "Adapter current sense resistor positive input. A 0.1-uF ceramic capacitor is placed from ACN to ACP to provide differential-mode filtering. A 0.1-uF ceramic capacitor is placed from ACP pin to AGND for common-mode filtering.", 7 CMSRC "Connect to common source of N-channel ACFET and reverse blocking MOSFET (RBFET). Place 4-kohm resistor from CMSRC pin to the common source of ACFET and RBFET to control the turn-on speed. The resistance between ACDRV and CMSRC (See Datasheet)", 8 ACDRV "AC adapter to system switch driver output. Connect to 4-kohm resistor then to the gate of the ACFET N-channel power MOSFET and the reverse conduction blocking N-channel power MOSFET. Connect both FETs as common-source. The (See Datasheet)", 9 STAT (hiz) "Open-drain charge status pin with 10-kohm pull up to power rail. The STAT pin can be used to drive LED or communicate with the host processor. It indicates various charger operations: LOW when charge in progress. HIGH when (See Datasheet)", 10 TS (in) "Temperature qualification voltage input. Connect a negative temperature coefficient thermistor. Program the hot and cold temperature window with a resistor divider from VREF to TS to AGND. The temperature qualification (See Datasheet)", 11 TTC (in) "Safety Timer and termination control. Connect a capacitor from this node to AGND to set the fast charge safety timer(5.6min/nF). Pre-charge timer is internally fixed to 30 minutes. Pull the TTC to LOW to disable the charge (See Datasheet)", 12 VREF (out) "3.3V reference voltage output. Place a 1-uF ceramic capacitor from VREF to AGND pin close to the IC. This voltage could be used for programming ISET and ACSET and TS pins. It may also serve as the pull-up rail of STAT pin (See Datasheet)", 13 ISET (in) "Fast charge current set point. Use a voltage divider from VREF to ISET to AGND to set the fast charge current: ICHG=VISET/(20*RSR) The pre-charge and termination current is internally as one tenth of the charge current. The (See Datasheet)", 14 CELL "Cell selection pin. Set CELL pin LOW for 1-cell, Float for 2-cell (0.8V-1.8V), and HIGH for 3-cell with a fixed 4.2V per cell.", 15 SRN (in) "Charge current sense resistor negative input. A 0.1-uF ceramic capacitor is placed from SRN to SRP to provide differential-mode filtering. A 0.1-uF ceramic capacitor is placed from SRN pin to AGND for common-mode filtering.", 16 SRP (in) "Charge current sense resistor, positive input. A 0.1-uF ceramic capacitor is placed from SRN to SRP to provide differential-mode filtering. A 0.1-uF ceramic capacitor is placed from SRP pin to AGND for common-mode filtering.", 17 ACSET (in) "Input current set point. Use a voltage divider from VREF to ACSET to AGND to set this value:IDPM=VACSET/(20*RAC)", 18 OVPSET (in) "Valid input voltage set point. Use a voltage divider from input to OVPSET to AGND to set this voltage. The voltage above internal 1.6V reference indicates input over-voltage, and the voltage below internal 0.5V reference (See Datasheet)", 19 ~{BATDRV} "Battery discharge MOSFET gate driver output. Connect to 1kohm resistor to the gate of the BATFET P-channel power MOSFET. Connect the source of the BATFET to the system load voltage node. Connect the drain of the BATFET to (See Datasheet)", 20 REGN (power) "PWM low side driver positive 6V supply output. Connect a 1-uF ceramic capacitor from REGN to PGND pin, close to the IC. Generate high-side driver bootstrap voltage by integrated diode from REGN to BTST", 21 BTST (power) "PWM high side driver positive supply. Connect the 0.047-uF bootstrap capacitor from SW to BTST.", 22 PGND (power) "Power ground. Ground connection for high-current power converter node. On PCB layout, connect directly to ground connection of input and output capacitors of the charger. Only connect to AGND through the Thermal Pad (See Datasheet)", 23 PGND (power) "Power ground. Ground connection for high-current power converter node. On PCB layout, connect directly to ground connection of input and output capacitors of the charger. Only connect to AGND through the Thermal Pad (See Datasheet)", 24 SW (power) "Switching node, charge current output inductor connection. Connect the 0.047-uF bootstrap capacitor from SW to BTST.", 25 EP (power) "Exposed pad beneath the IC. Always solder Thermal Pad to the board, and have vias on the Thermal  Pad plane star-connecting to AGND and ground plane for high-current power converter. It dissipates the heat from the IC."